# EAGLE library part SOCKET_ZIF_40P (library mylib_20130829)
Zero Insertion Force Socked Source: http://www.3M.com/ehpd
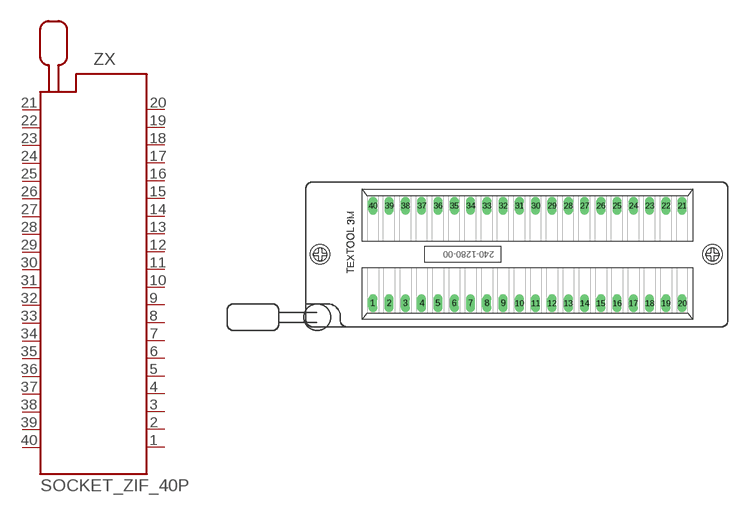
[diagram p23: symbol with the pads of IC_SOCKET_ZIF_40; footprint IC_SOCKET_ZIF_40]

Designator prefix ZX

## SOCKET_ZIF_40P1280  [IC_SOCKET_ZIF_40]
1  21  pas
2  22  pas
3  23  pas
4  24  pas
5  25  pas
6  26  pas
7  27  pas
8  28  pas
9  29  pas
10  30  pas
11  31  pas
12  32  pas
13  33  pas
14  34  pas
15  35  pas
16  36  pas
17  37  pas
18  38  pas
19  39  pas
20  40  pas
21  1  pas
22  2  pas
23  3  pas
24  4  pas
25  5  pas
26  6  pas
27  7  pas
28  8  pas
29  9  pas
30  10  pas
31  11  pas
32  12  pas
33  13  pas
34  14  pas
35  15  pas
36  16  pas
37  17  pas
38  18  pas
39  19  pas
40  20  pas

## Footprint IC_SOCKET_ZIF_40 (pad centres in mm)
3M TEXTOOL 40 pol. DIP Lever actuated zero insertion force mechanism Hersteller: 3M TEXTOOL Herstellerbez.: 240-1280-00-0602J Farnell Best.-Nr.: 4665466 Source: http://www.3M.com/ehpd
drill 0.9 long: 1 -24.13,-7.62; 2 -21.59,-7.62; 3 -19.05,-7.62; 4 -16.51,-7.62; 5 -13.97,-7.62; 6 -11.43,-7.62; 7 -8.89,-7.62; 8 -6.35,-7.62; 9 -3.81,-7.62; 10 -1.27,-7.62; 11 1.27,-7.62; 12 3.81,-7.62; 13 6.35,-7.62; 14 8.89,-7.62; 15 11.43,-7.62; 16 13.97,-7.62; 17 16.51,-7.62; 18 19.05,-7.62; 19 21.59,-7.62; 20 24.13,-7.62; 21 24.13,7.62; 22 21.59,7.62; 23 19.05,7.62; 24 16.51,7.62; 25 13.97,7.62; 26 11.43,7.62; 27 8.89,7.62; 28 6.35,7.62; 29 3.81,7.62; 30 1.27,7.62; 31 -1.27,7.62; 32 -3.81,7.62; 33 -6.35,7.62; 34 -8.89,7.62; 35 -11.43,7.62; 36 -13.97,7.62; 37 -16.51,7.62; 38 -19.05,7.62; 39 -21.59,7.62; 40 -24.13,7.62
hole 2 at 28.86,0
hole 2 at -32.36,0